# EAGLE library part 74AC32MTCX (library parts)
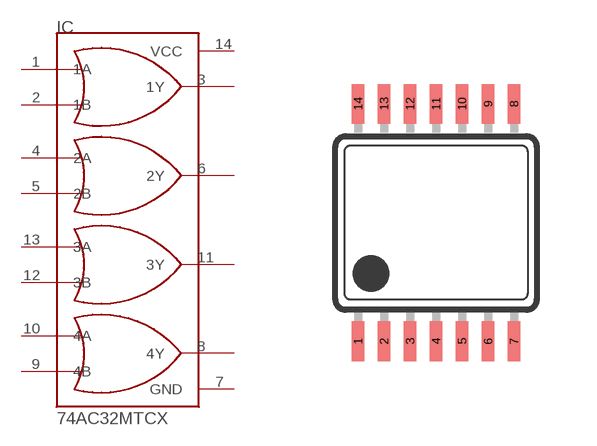
[diagram p10: symbol with the pads of TSSOP14-RU; footprint TSSOP14-RU]

Designator prefix IC

## 74AC32MTCX  [TSSOP14-RU]
1  1A
2  1B
3  1Y
4  2A
5  2B
6  2Y
7  GND
8  4Y
9  4B
10  4A
11  3Y
12  3B
13  3A
14  VCC

## Footprint TSSOP14-RU (pad centres in mm)
14-Lead Thin Shrink Small Outline Package [TSSOP] (RU-14) Source: www.analog.com .. OP1177_2177_4177.pdf
smd 0.305 x 0.991: 1 -1.95,-2.968; 2 -1.3,-2.968; 3 -0.65,-2.968; 4 0,-2.968; 5 0.65,-2.968; 6 1.3,-2.968; 7 1.95,-2.968; 8 1.95,2.968; 9 1.3,2.968; 10 0.65,2.968; 11 0,2.968; 12 -0.65,2.968; 13 -1.3,2.968; 14 -1.95,2.968